# EAGLE library part HIN211CAZ-T (library Intersil_By_element14_Batch_1)
Transmitters/Receivers
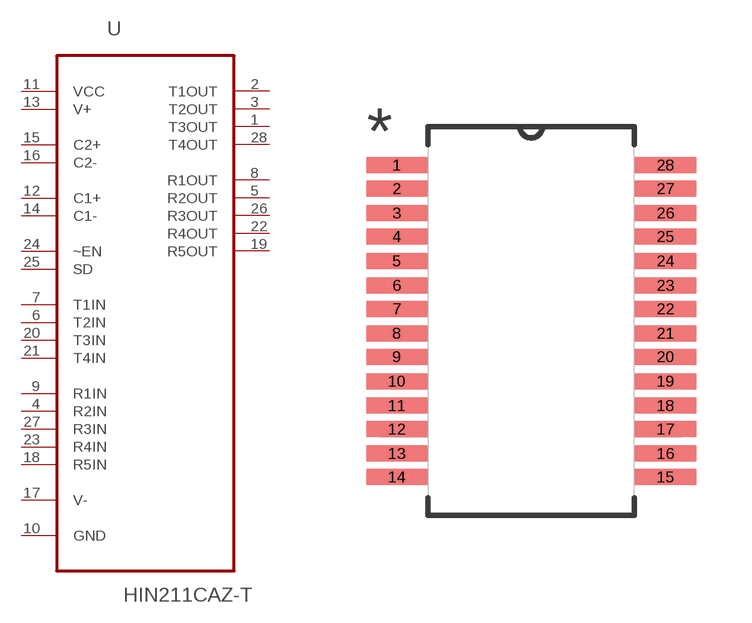
[diagram p142: symbol with the pads of SOP65P780X200-28N; footprint SOP65P780X200-28N]

Designator prefix U

## HIN211CAZ-T (MPN: HIN211CAZ-T; OC_FARNELL: -; OC_NEWARK: 11J8724; PACKAGE: SSOP-28; SUPPLIER: INTERSIL)  [SOP65P780X200-28N]
1  T3OUT  out
2  T1OUT  out
3  T2OUT  out
4  R2IN  in
5  R2OUT  out
6  T2IN  in
7  T1IN  in
8  R1OUT  out
9  R1IN  in
10  GND  pas
11  VCC  pwr
12  C1+  pas
13  V+  pwr
14  C1-  pas
15  C2+  pas
16  C2-  pas
17  V-  pwr
18  R5IN  in
19  R5OUT  out
20  T3IN  in
21  T4IN  in
22  R4OUT  out
23  R4IN  in
24  ~EN  in
25  SD  in
26  R3OUT  out
27  R3IN  in
28  T4OUT  out

## Footprint SOP65P780X200-28N (pad centres in mm)
smd 1.651 x 0.432: 1 -3.632,4.216; 2 -3.632,3.581; 3 -3.632,2.921; 4 -3.632,2.286; 5 -3.632,1.626; 6 -3.632,0.965; 7 -3.632,0.33; 8 -3.632,-0.33; 9 -3.632,-0.965; 10 -3.632,-1.626; 11 -3.632,-2.286; 12 -3.632,-2.921; 13 -3.632,-3.581; 14 -3.632,-4.216; 15 3.632,-4.216; 16 3.632,-3.581; 17 3.632,-2.921; 18 3.632,-2.286; 19 3.632,-1.626; 20 3.632,-0.965; 21 3.632,-0.33; 22 3.632,0.33; 23 3.632,0.965; 24 3.632,1.626; 25 3.632,2.286; 26 3.632,2.921; 27 3.632,3.581; 28 3.632,4.216